# EAGLE library part PIC32MX230F064B- (library BaseApp)
Digikey No :- __PIC32MX230F064B-I/SS-ND__
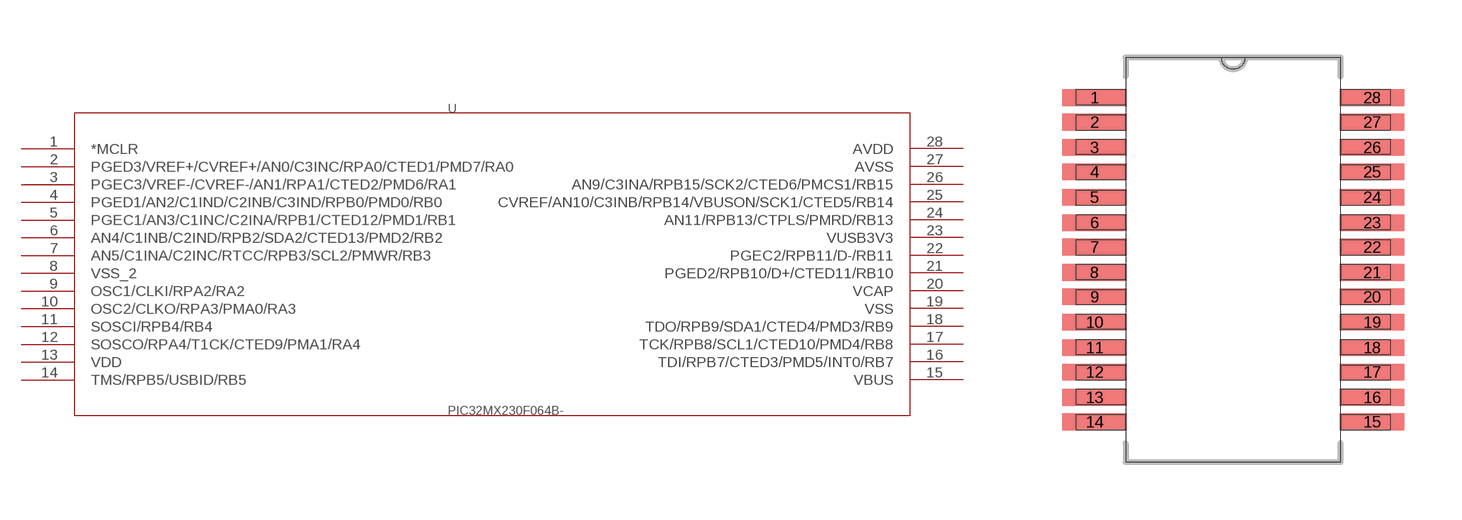
[diagram p89: symbol with the pads of SSOP28; footprint SSOP28]

Designator prefix -

## PIC32MX230F064B-  [SSOP28]
1  *MCLR  pas
2  PGED3/VREF+/CVREF+/AN0/C3INC/RPA0/CTED1/PMD7/RA0  pas
3  PGEC3/VREF-/CVREF-/AN1/RPA1/CTED2/PMD6/RA1  pas
4  PGED1/AN2/C1IND/C2INB/C3IND/RPB0/PMD0/RB0  pas
5  PGEC1/AN3/C1INC/C2INA/RPB1/CTED12/PMD1/RB1  pas
6  AN4/C1INB/C2IND/RPB2/SDA2/CTED13/PMD2/RB2  pas
7  AN5/C1INA/C2INC/RTCC/RPB3/SCL2/PMWR/RB3  pas
8  VSS_2  pas
9  OSC1/CLKI/RPA2/RA2  pas
10  OSC2/CLKO/RPA3/PMA0/RA3  pas
11  SOSCI/RPB4/RB4  pas
12  SOSCO/RPA4/T1CK/CTED9/PMA1/RA4  pas
13  VDD  pas
14  TMS/RPB5/USBID/RB5  pas
15  VBUS  pas
16  TDI/RPB7/CTED3/PMD5/INT0/RB7  pas
17  TCK/RPB8/SCL1/CTED10/PMD4/RB8  pas
18  TDO/RPB9/SDA1/CTED4/PMD3/RB9  pas
19  VSS  pas
20  VCAP  pas
21  PGED2/RPB10/D+/CTED11/RB10  pas
22  PGEC2/RPB11/D-/RB11  pas
23  VUSB3V3  pas
24  AN11/RPB13/CTPLS/PMRD/RB13  pas
25  CVREF/AN10/C3INB/RPB14/VBUSON/SCK1/CTED5/RB14  pas
26  AN9/C3INA/RPB15/SCK2/CTED6/PMCS1/RB15  pas
27  AVSS  pas
28  AVDD  pas

## Footprint SSOP28 (pad centres in mm)
smd 1.676 x 0.432: 1 -3.607,4.216; 2 -3.607,3.581; 3 -3.607,2.921; 4 -3.607,2.286; 5 -3.607,1.626; 6 -3.607,0.965; 7 -3.607,0.33; 8 -3.607,-0.33; 9 -3.607,-0.965; 10 -3.607,-1.626; 11 -3.607,-2.286; 12 -3.607,-2.921; 13 -3.607,-3.581; 14 -3.607,-4.216; 15 3.607,-4.216; 16 3.607,-3.581; 17 3.607,-2.921; 18 3.607,-2.286; 19 3.607,-1.626; 20 3.607,-0.965; 21 3.607,-0.33; 22 3.607,0.33; 23 3.607,0.965; 24 3.607,1.626; 25 3.607,2.286; 26 3.607,2.921; 27 3.607,3.581; 28 3.607,4.216